# Altium footprint library LIANGJICHAO_LIBRARY.PCBLIB: 178 footprints (part 12 of 12)
Each footprint in its own frame and in the unit in brackets; x right, y up, seen from the top. Pads: shape width x height; smd on the part's side, far side on the other; paste and mask are expansions set on the pad; w line width, h text height; cw(c..) or ccw(c..) is an arc to the next point about the centre after c.
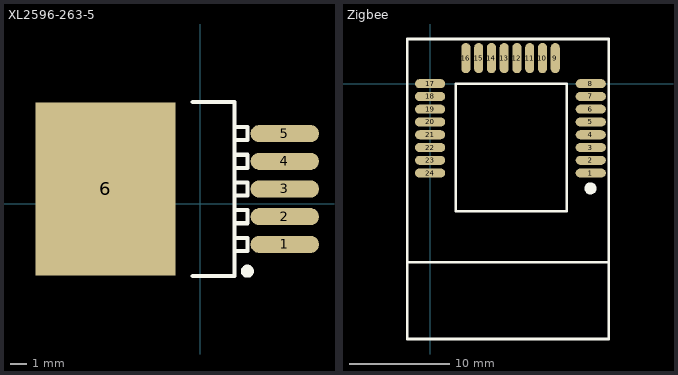
[diagram p11: the footprints below, top view; thin cyan lines are the x and y axes]

## XL2596-263-5 [mm]
pads (6):
  oval 4.2x1.05 smd: 1(5.18,-2.495) 2(5.18,-0.795) 3(5.18,0.905) 4(5.18,2.605) 5(5.18,4.305)
  rect 8.6x10.65 smd: 6(-5.82,0.905)
Top Overlay:
  circle w0.4: c2.88,-4.145 r0.2
  lines w0.254: -0.47,-4.445 2.08,-4.445 2.08,6.255 -0.47,6.255 ; 2.08,-2.095 2.88,-2.095 2.88,-2.895 2.18,-2.895 ; 2.08,-0.395 2.88,-0.395 2.88,-1.195 2.18,-1.195 ; 2.08,1.305 2.88,1.305 2.88,0.505 2.18,0.505 ; 2.08,3.005 2.88,3.005 2.88,2.205 2.18,2.205 ; 2.08,4.705 2.88,4.705 2.88,3.905 2.18,3.905

## Zigbee [mm]
pads (24):
  oval 3x0.9 smd: 1(15.981,-8.89) 2(15.981,-7.62) 3(15.981,-6.35) 4(15.981,-5.08) 5(15.981,-3.81) 6(15.981,-2.54) 7(15.981,-1.27) 8(15.981,0) 17(0,0) 18(0,-1.27) 19(0,-2.54) 20(0,-3.81) 21(0,-5.08) 22(0,-6.35) 23(0,-7.62) 24(0,-8.89)
  oval 0.9x3 smd: 9(12.446,2.54) 10(11.176,2.54) 11(9.906,2.54) 12(8.636,2.54) 13(7.366,2.54) 14(6.096,2.54) 15(4.826,2.54) 16(3.556,2.54)
Top Overlay:
  circle w0.6: c15.956,-10.414 r0.3
  lines w0.254: -2.286,-17.78 17.653,-17.78 17.78,-17.78 ; 2.54,0 2.54,-12.7 13.589,-12.7 13.589,0 ; 2.54,0 13.589,0 ; 2.54,0 13.589,0 ; -2.286,-25.4 -2.286,4.445 17.78,4.445 17.78,-25.4 13.589,-25.4 2.54,-25.4 -2.286,-25.4 ; 16.002,-10.414 16.002,-10.414